# Altium footprint library PCB - LEADLESS - UQFN-16(1.8x2.6).PCBLIB: 1 footprints
Each footprint in its own frame and in the unit in brackets; x right, y up, seen from the top. Pads: shape width x height; smd on the part's side, far side on the other; paste and mask are expansions set on the pad; w line width, h text height; cw(c..) or ccw(c..) is an arc to the next point about the centre after c.
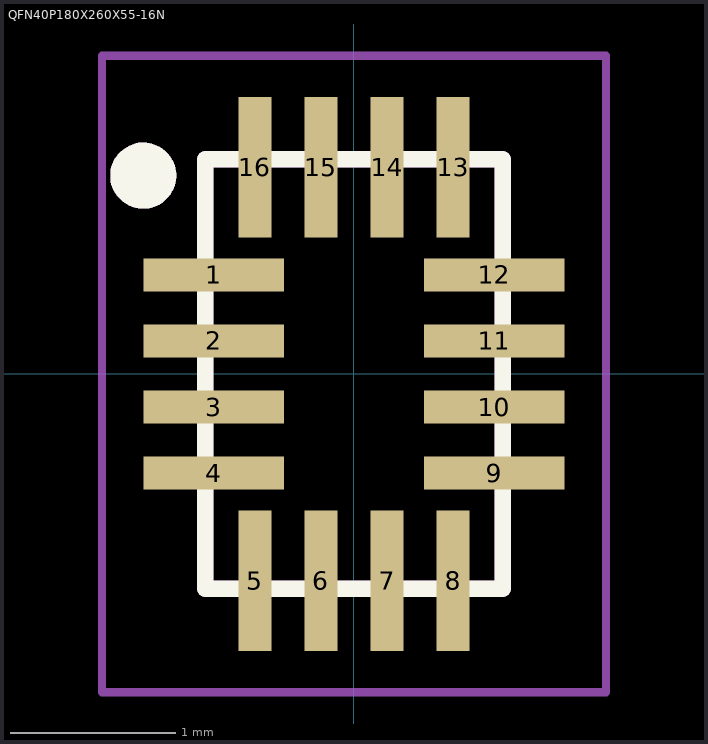
[diagram p0: the footprint, top view; thin cyan lines are the x and y axes]

## QFN40P180X260X55-16N [mm]
pads (16):
  rect 0.85x0.2 smd: 1(-0.85,0.6) 2(-0.85,0.2) 3(-0.85,-0.2) 4(-0.85,-0.6) 9(0.85,-0.6) 10(0.85,-0.2) 11(0.85,0.2) 12(0.85,0.6)
  rect 0.2x0.85 smd: 5(-0.6,-1.25) 6(-0.2,-1.25) 7(0.2,-1.25) 8(0.6,-1.25) 13(0.6,1.25) 14(0.2,1.25) 15(-0.2,1.25) 16(-0.6,1.25)
Top Overlay:
  circle w0.2: c-1.275,1.2 r0.1
  lines w0.1: -0.9,-1.3 -0.9,1.3 0.9,1.3 0.9,-1.3 -0.9,-1.3
Top Assembly:
  circle w0.2: c-1.275,1.2 r0.1
  lines w0.1: -0.9,-1.3 -0.9,1.3 0.9,1.3 0.9,-1.3 -0.9,-1.3
Top Courtyard:
  lines w0.05: -1.525,-1.925 -1.525,1.925 1.525,1.925 1.525,-1.925 -1.525,-1.925
Top Designator:
  text ".Designator" at -2.797,-2.82 h0.76
3D body "TMUX1574RSVR.stp": height 0.55, standoff 0, extent -0.9,-1.3 0.9,1.3